# Altium footprint library PcbLib1.PcbLib: 14 footprints
Each footprint in its own frame and in the unit in brackets; x right, y up, seen from the top. Pads: shape width x height; smd on the part's side, far side on the other; paste and mask are expansions set on the pad; w line width, h text height; cw(c..) or ccw(c..) is an arc to the next point about the centre after c.
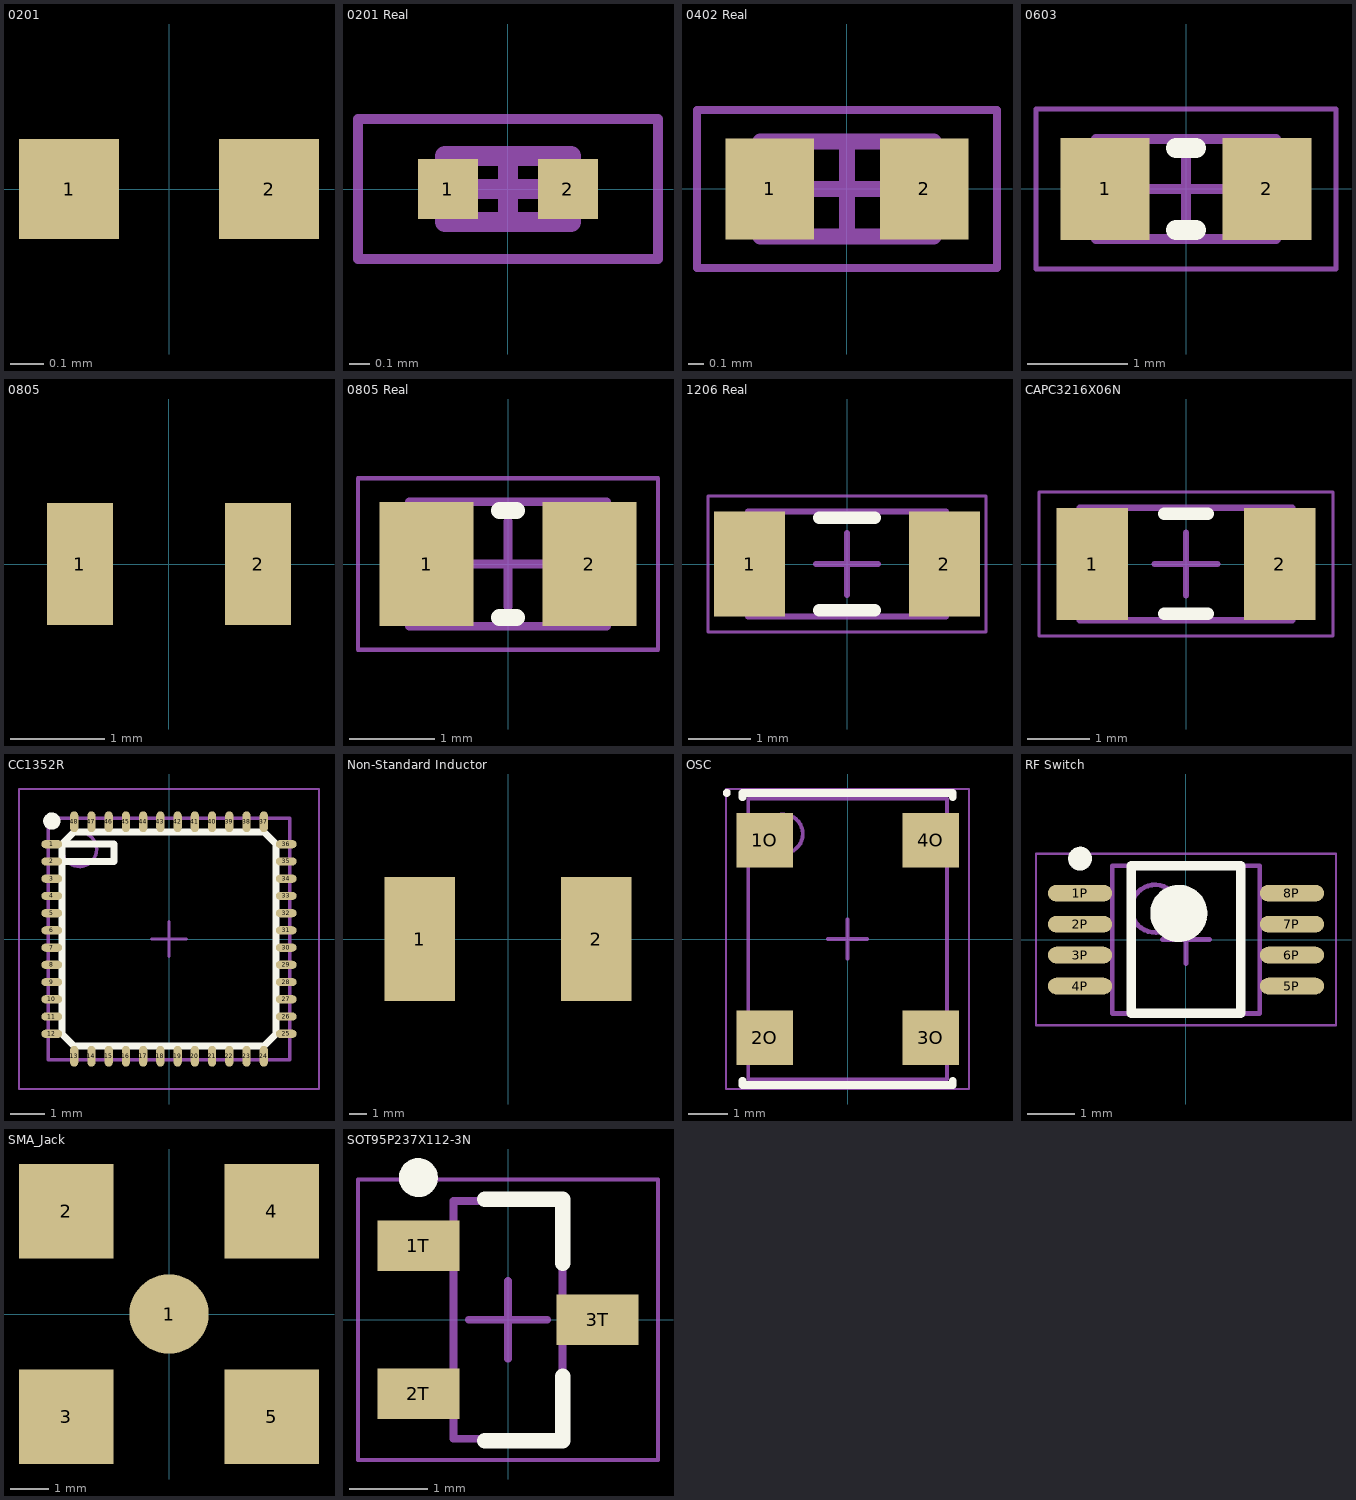
[diagram p0: the footprints below, top view; thin cyan lines are the x and y axes]

## 0201 [mm]
pads (2):
  rect 0.3x0.3 smd: 1(-0.3,0) 2(0.3,0)

## 0201 Real [mm]
height 0.33
pads (2):
  rect 0.3x0.3 smd: 1(-0.3,0) 2(0.3,0)
Mechanical 13:
  lines w0.1: -0.315,-0.165 -0.315,0.165 0.315,0.165 0.315,-0.165 -0.315,-0.165
Mechanical 15:
  lines w0.05: -0.75,-0.35 -0.75,0.35 0.75,0.35 0.75,-0.35 -0.75,-0.35
  lines w0.1: -0.165,0 0.165,0 ; 0,-0.165 0,0.165
3D body: height 0.33, standoff 0, extent -0.165,-0.165 0.165,0.165
3D body: height 0.33, standoff 0, extent -0.315,-0.165 -0.165,0.165
3D body: height 0.33, standoff 0, extent 0.165,-0.165 0.315,0.165

## 0402 Real [mm]
height 0.6
pads (2):
  rect 0.56x0.64 smd: 1(-0.49,0) 2(0.49,0)
Mechanical 13:
  lines w0.1: -0.55,-0.3 -0.55,0.3 0.55,0.3 0.55,-0.3 -0.55,-0.3
Mechanical 15:
  lines w0.05: -0.95,-0.5 -0.95,0.5 0.95,0.5 0.95,-0.5 -0.95,-0.5
  lines w0.1: -0.3,0 0.3,0 ; 0,-0.3 0,0.3
3D body: height 0.6, standoff 0, extent -0.32,-0.3 0.32,0.3
3D body: height 0.6, standoff 0, extent -0.55,-0.3 -0.32,0.3
3D body: height 0.6, standoff 0, extent 0.32,-0.3 0.55,0.3

## 0603 [mm]
height 0.4
pads (2):
  rect 0.89x1.02 smd: 1(-0.81,0) 2(0.81,0)
Top Overlay:
  lines w0.2: -0.1,-0.41 0.1,-0.41 ; -0.1,0.41 0.1,0.41
Mechanical 13:
  lines w0.1: -0.9,-0.5 -0.9,0.5 0.9,0.5 0.9,-0.5 -0.9,-0.5
Mechanical 15:
  lines w0.05: -1.5,-0.8 -1.5,0.8 1.5,0.8 1.5,-0.8 -1.5,-0.8
  lines w0.1: -0.5,0 0.5,0 ; 0,-0.5 0,0.5
3D body: height 0.4, standoff 0, extent -0.6,-0.5 0.6,0.5
3D body: height 0.4, standoff 0, extent -0.9,-0.5 -0.6,0.5
3D body: height 0.4, standoff 0, extent 0.6,-0.5 0.9,0.5

## 0805 [mm]
pads (2):
  rect 0.7x1.3 smd: 1(-0.95,0) 2(0.95,0)

## 0805 Real [mm]
height 1.15
pads (2):
  rect 1.1x1.45 smd: 1(-0.95,0) 2(0.95,0)
Top Overlay:
  lines w0.2: -0.1,-0.625 0.1,-0.625 ; -0.1,0.625 0.1,0.625
Mechanical 13:
  lines w0.1: -1.15,-0.725 -1.15,0.725 1.15,0.725 1.15,-0.725 -1.15,-0.725
Mechanical 15:
  lines w0.05: -1.75,-1 -1.75,1 1.75,1 1.75,-1 -1.75,-1
  lines w0.1: -0.5,0 0.5,0 ; 0,-0.5 0,0.5
3D body: height 1.15, standoff 0, extent -0.85,-0.725 0.85,0.725
3D body: height 1.15, standoff 0, extent -1.15,-0.725 -0.85,0.725
3D body: height 1.15, standoff 0, extent 0.85,-0.725 1.15,0.725

## 1206 Real [mm] "Chip Capacitor, 2-Leads, Body 3.05x1.55mm, IPC Medium Density"
height 0.65
pads (2):
  rect 1.15x1.7 smd: 1(-1.575,0) 2(1.575,0)
Top Overlay:
  lines w0.2: -0.45,-0.75 0.45,-0.75 ; -0.45,0.75 0.45,0.75
Mechanical 13:
  lines w0.1: -1.6,-0.85 -1.6,0.85 1.6,0.85 1.6,-0.85 -1.6,-0.85
Mechanical 15:
  lines w0.05: -2.25,-1.1 -2.25,1.1 2.25,1.1 2.25,-1.1 -2.25,-1.1
  lines w0.1: -0.5,0 0.5,0 ; 0,-0.5 0,0.5
3D body: height 0.65, standoff 0, extent -1.18,-0.85 1.18,0.85
3D body: height 0.65, standoff 0, extent -1.6,-0.85 -1.18,0.85
3D body: height 0.65, standoff 0, extent 1.18,-0.85 1.6,0.85

## CAPC3216X06N [mm] "Chip Capacitor, 2-Leads, Body 3,20x1,60mm, IPC Medium Density"
height 0.6
pads (2):
  rect 1.15x1.8 smd: 1(-1.5,0) 2(1.5,0)
Top Overlay:
  lines w0.2: -0.35,-0.8 0.35,-0.8 ; -0.35,0.8 0.35,0.8
Mechanical 13:
  lines w0.1: -1.7,-0.9 1.7,-0.9 1.7,0.9 -1.7,0.9 -1.7,-0.9
Mechanical 15:
  lines w0.05: -2.35,-1.15 2.35,-1.15 2.35,1.15 -2.35,1.15 -2.35,-1.15
  lines w0.1: -0.5,0 0.5,0 ; 0,-0.5 0,0.5
3D body: height 0.6, standoff 0, extent 1.2,-0.9 1.7,0.9
3D body: height 0.6, standoff 0, extent -1.7,-0.9 -1.2,0.9
3D body: height 0.6, standoff 0, extent -1.2,-0.9 1.2,0.9

## CC1352R [mm] "CQFP, 48-Leads, Body 7,40x7,40mm, Pitch 0,50mm, IPC Medium Density"
height 1
pads (48):
  oval 0.6x0.24 smd: 1(-3.4,2.75) 2(-3.4,2.25) 3(-3.4,1.75) 4(-3.4,1.25) 5(-3.4,0.75) 6(-3.4,0.25) 7(-3.4,-0.25) 8(-3.4,-0.75) 9(-3.4,-1.25) 10(-3.4,-1.75) 11(-3.4,-2.25) 12(-3.4,-2.75) 25(3.4,-2.75) 26(3.4,-2.25) 27(3.4,-1.75) 28(3.4,-1.25) 29(3.4,-0.75) 30(3.4,-0.25) 31(3.4,0.25) 32(3.4,0.75) 33(3.4,1.25) 34(3.4,1.75) 35(3.4,2.25) 36(3.4,2.75)
  oval 0.24x0.6 smd: 13(-2.75,-3.4) 14(-2.25,-3.4) 15(-1.75,-3.4) 16(-1.25,-3.4) 17(-0.75,-3.4) 18(-0.25,-3.4) 19(0.25,-3.4) 20(0.75,-3.4) 21(1.25,-3.4) 22(1.75,-3.4) 23(2.25,-3.4) 24(2.75,-3.4) 37(2.75,3.4) 38(2.25,3.4) 39(1.75,3.4) 40(1.25,3.4) 41(0.75,3.4) 42(0.25,3.4) 43(-0.25,3.4) 44(-0.75,3.4) 45(-1.25,3.4) 46(-1.75,3.4) 47(-2.25,3.4) 48(-2.75,3.4)
Top Overlay:
  circle w0.25: c-3.4,3.42 r0.125
  lines w0.2: -3.1,2.25 -1.6,2.25 -1.6,2.75 -3.1,2.75 ; -3.1,2.75 -3.1,-2.75 -2.75,-3.1 2.75,-3.1 3.1,-2.75 3.1,2.75 2.75,3.1 -2.75,3.1 -3.1,2.75
Mechanical 13:
  circle w0.1: c-2.6,2.6 r0.5
  lines w0.1: -3.5,-3.5 -3.5,3.5 3.5,3.5 3.5,-3.5 -3.5,-3.5
Mechanical 15:
  lines w0.05: -4.35,-4.35 -4.35,4.35 4.35,4.35 4.35,-4.35 -4.35,-4.35
  lines w0.1: -0.5,0 0.5,0 ; 0,-0.5 0,0.5
3D body: height 1, standoff 0.05, extent -3.5,-3.5 3.5,3.5
3D body: height 0.25, standoff 0, extent 6.985,-2.159 6.985,-2.159

## Non-Standard Inductor [mm]
pads (2):
  rect 4x7 smd: 1(-5,0) 2(5,0)

## OSC [mm] "SON, 4-Leads, Body 7,00x5,08mm, Pitch 5,08mm, IPC Medium Density"
height 1.8
pads (4):
  rect 1.45x1.4 smd: 1O(-2.13,2.54) 2O(-2.13,-2.54) 3O(2.13,-2.54) 4O(2.13,2.54)
Top Overlay:
  circle w0.1: c-3.1,3.75 r0.05
  lines w0.2: -2.7,-3.64 -2.7,-3.75 2.7,-3.75 2.7,-3.64 ; -2.7,3.64 -2.7,3.75 2.7,3.75 2.7,3.64
Mechanical 13:
  circle w0.1: c-1.65,2.7 r0.5
  lines w0.1: -2.55,-3.6 -2.55,3.6 2.55,3.6 2.55,-3.6 -2.55,-3.6
Mechanical 15:
  lines w0.05: -3.12,-3.85 -3.12,3.85 3.12,3.85 3.12,-3.85 -3.12,-3.85
  lines w0.1: -0.5,0 0.5,0 ; 0,-0.5 0,0.5
3D body: height 1.27, standoff 0, extent -2.54,-2.537 2.54,2.537

## RF Switch [mm] "TSOP, 8-Leads, Body 3.00x3.00mm, Pitch 0.65mm, IPC Medium Density"
height 0.92
pads (8):
  oval 1.35x0.35 smd: 1P(-2.225,0.975) 2P(-2.225,0.325) 3P(-2.225,-0.325) 4P(-2.225,-0.975) 5P(2.225,-0.975) 6P(2.225,-0.325) 7P(2.225,0.325) 8P(2.225,0.975)
Top Overlay:
  circle w0.6: c-0.15,0.55 r0.3
  circle w0.25: c-2.225,1.7 r0.125
  lines w0.2: -1.15,-1.55 1.15,-1.55 1.15,1.55 -1.15,1.55 -1.15,-1.55
Mechanical 13:
  circle w0.1: c-0.65,0.65 r0.5
  lines w0.1: -1.55,-1.55 1.55,-1.55 1.55,1.55 -1.55,1.55 -1.55,-1.55
Mechanical 15:
  lines w0.05: -3.15,-1.8 3.15,-1.8 3.15,1.8 -3.15,1.8 -3.15,-1.8
  lines w0.1: -0.5,0 0.5,0 ; 0,-0.5 0,0.5
3D body: height 0.92, standoff 0.25, extent -1.55,-1.55 1.55,1.55

## SMA_Jack [mm]
pads (5):
  round 2.05 all layers, no hole: 1(0,0)
  rect 2.44x2.44 all layers, no hole: 2(-2.66,2.66) 3(-2.66,-2.66) 4(2.66,2.66) 5(2.66,-2.66)

## SOT95P237X112-3N [mm] "SOT23, 3-Leads, Body 2,86x2,37mm, Pitch 0,95mm, IPC Medium Density"
height 1.12
pads (3):
  rect 1.05x0.65 smd: 1T(-1.15,0.95) 2T(-1.15,-0.95) 3T(1.15,0)
Top Overlay:
  circle w0.25: c-1.15,1.825 r0.125
  lines w0.2: -0.3,-1.55 0.7,-1.55 0.7,-0.725 ; -0.3,1.55 0.7,1.55 0.7,0.725
Mechanical 13:
  lines w0.1: -0.7,-1.525 -0.7,1.525 0.7,1.525 0.7,-1.525 -0.7,-1.525
Mechanical 15:
  lines w0.05: -1.925,-1.8 -1.925,1.8 1.925,1.8 1.925,-1.8 -1.925,-1.8
  lines w0.1: -0.5,0 0.5,0 ; 0,-0.5 0,0.5
3D body: height 1.12, standoff 0.1, extent -0.7,-1.525 0.7,1.525